# EAGLE library part ST3485 (library pixel_masterlib)
IC TXRX 3.3V RS485/422 8 SOIC
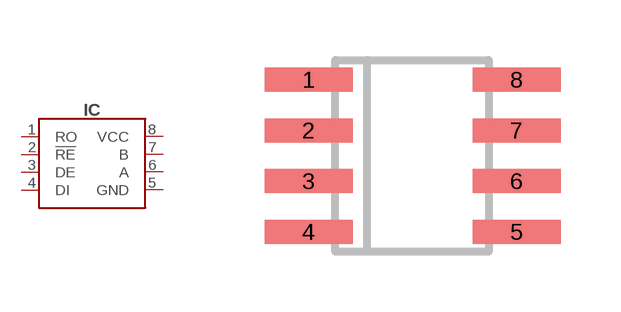
[diagram p4: symbol with the pads of SOIC8; footprint SOIC8]

Designator prefix IC

## ST3485SOIC8 (CHIPDIP#: 9000220421; DIGIKEY#: 497-2080-1-ND; FARNELL#: 2253266; MANF: STMicroelectronics; MANF#: ST3485EBDR; TME#: ST3485EBD)  [SOIC8]
1  RO
2  !RE
3  DE
4  DI
5  GND
6  A
7  B
8  VCC

## Footprint SOIC8 (pad centres in mm)
Small Outline IC
smd 2.2 x 0.6: 1 -2.6,1.905; 2 -2.6,0.635; 3 -2.6,-0.635; 4 -2.6,-1.905; 5 2.6,-1.905; 6 2.6,-0.635; 7 2.6,0.635; 8 2.6,1.905